# Altium schematic symbol library NDS332P.SchLib: 1 symbol
Pins are listed as number, name and electrical type; pins without a type are passive.

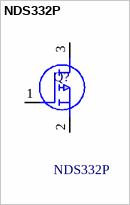
[diagram p0: symbol NDS332P]

## NDS332P
designator Q?
Proprietary package design using copper lead frame for superior thermal and electrical capabilities; High density cell design for extremely low RDS(ON); Very low level gate drive requirements allowing direct operation in 3V circuits VGS(th) < 1.0V; -1 A, -20 V RDS(ON) = 0.41 @ VGS= -2.7 V RDS(ON) = 0.3  @ VGS = -4.5 V; Exceptional on-resistance and maximum DC current capability; Compact industry standard SOT-23 surface Mount package; Manufacturer_Name: onsemi; Geometry.Height: 1.12mm; Mouser Part Number: 512-NDS332P; Mouser Price/Stock: https://www.mouser.co.uk/ProductDetail/onsemi-Fairchild/NDS332P?qs=FOlmdCx%252BAA3elNuimac4rQ%3D%3D; Manufacturer_Part_Number: NDS332P; Datasheet Link: https://www.onsemi.com/pub/Collateral/NDS332P-D.PDF
footprint SOT95P237X112-3N
pins: 1 G, 2 S, 3 D